# Altium schematic symbol library 2020-04-08_20-09-47.SchLib: 2 symbols
Pins are listed as number, name and electrical type; pins without a type are passive.

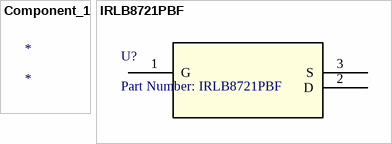
[diagram p0: symbols Component_1 to IRLB8721PBF]

## Component_1
designator *

## IRLB8721PBF
designator U?, comment Part Number: IRLB8721PBF
No Description Available; Vendor: Infineon; Built_By: EMA_UL_Team; Manufacturer_Part_Number: IRLB8721PBF; Copyright: Copyright (C) 2018 Accelerated Designs. All rights reserved; RefDes: RefDes; Type: DEV; Value: Value
footprint PG-TO220-3
pins: 1 G, 2 D, 3 S